# Altium schematic symbol library battery_charging.SchLib: 1 symbol
Pins are listed as number, name and electrical type; pins without a type are passive.

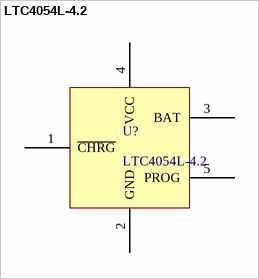
[diagram p0: symbol LTC4054L-4.2]

## LTC4054L-4.2
designator U?
150 mA Standalone Linear Li-Ion Battery Charger in ThinSOT; Supplier 1: Digi-Key; Supplier Part Number 1: LTC4054ES5-4.2#TRMPBFCT-ND
footprint TSOT23-5 (SOT23, 5-Leads, Body 2.90x2.80mm, Pitch 0.95mm, IPC Medium Density)
pins: 1 ~{CHRG}, 2 GND, 3 BAT, 4 VCC, 5 PROG